# Altium footprint library NLSV2T244MUTAG.PcbLib: 3 footprints
Each footprint in its own frame and in the unit in brackets; x right, y up, seen from the top. Pads: shape width x height; smd on the part's side, far side on the other; paste and mask are expansions set on the pad; w line width, h text height; cw(c..) or ccw(c..) is an arc to the next point about the centre after c.
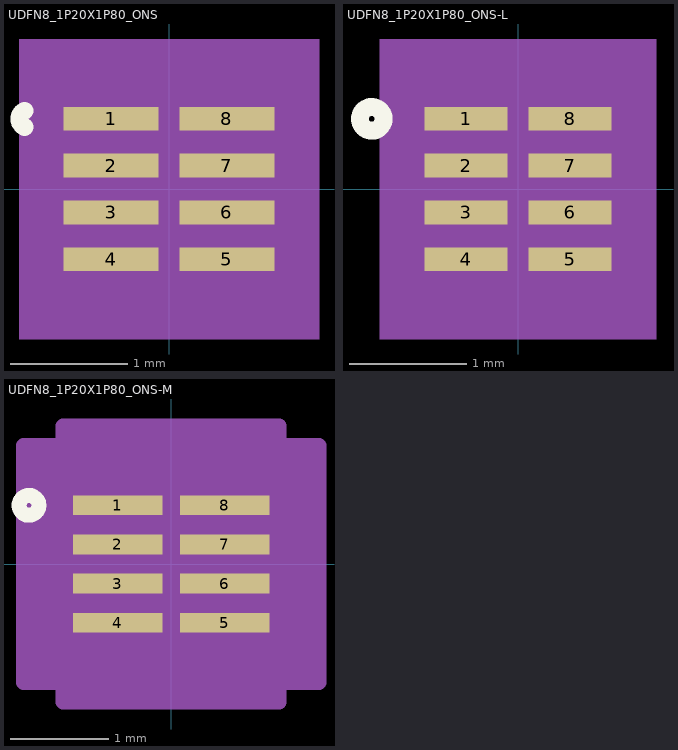
[diagram p0: the footprints below, top view; thin cyan lines are the x and y axes]

## UDFN8_1P20X1P80_ONS [mil]
pads (8):
  rect 32x8 smd paste+0 mask+0: 1(-19.5,23.62) 2(-19.5,7.87) 3(-19.5,-7.87) 4(-19.5,-23.62) 5(19.5,-23.62) 6(19.5,-7.87) 7(19.5,7.87) 8(19.5,23.62)
Top Overlay:
  lines w6: -48.6,20.88 cw(c-47.37,23.62) -48.6,26.36
Mechanical 5:
  region: 50.5,-50.5 -50.5,-50.5 -50.5,50.5 50.5,50.5
Mechanical 13:
  circle w6: c-3.5,23.62 r0
  lines w0: -12,35.5 ccw(c0,35.5) 12,35.5
  lines w1: -23.5,-35.5 23.5,-35.5 23.5,35.5 -23.5,35.5 -23.5,-35.5
Mechanical 15:
  region: -33.5,-37.62 -45.5,-37.62 -45.5,37.62 -33.5,37.62 -33.5,45.5 33.5,45.5 33.5,37.62 45.5,37.62 45.5,-37.62 33.5,-37.62 33.5,-45.5 -33.5,-45.5
  lines w6: -45.5,-37.62 -45.5,37.62 -33.5,37.62 -33.5,45.5 33.5,45.5 33.5,37.62 45.5,37.62 45.5,-37.62 33.5,-37.62 33.5,-45.5 -33.5,-45.5 -33.5,-37.62 -45.5,-37.62
3D body "UDFN8_1P20X1P80_ONS.step": height 22.09, standoff 0, extent -23.5,-35.51 23.5,35.51

## UDFN8_1P20X1P80_ONS-L [mil]
pads (8):
  rect 28x8 smd paste+0 mask+0: 1(-17.5,23.62) 2(-17.5,7.87) 3(-17.5,-7.87) 4(-17.5,-23.62) 5(17.5,-23.62) 6(17.5,-7.87) 7(17.5,7.87) 8(17.5,23.62)
Top Overlay:
  circle w6: c-49.25,23.62 r4
Mechanical 5:
  region: 46.5,-50.5 -46.5,-50.5 -46.5,50.5 46.5,50.5
Mechanical 13:
  circle w0: c-3.5,23.62 r3
  lines w0: -12,35.5 ccw(c0,35.5) 12,35.5
  lines w1: -23.5,-35.5 23.5,-35.5 23.5,35.5 -23.5,35.5 -23.5,-35.5
Mechanical 15:
  region: -27.5,-31.62 -35.5,-31.62 -35.5,31.62 -27.5,31.62 -27.5,39.5 27.5,39.5 27.5,31.62 35.5,31.62 35.5,-31.62 27.5,-31.62 27.5,-39.5 -27.5,-39.5
  lines w6: -35.5,-31.62 -35.5,31.62 -27.5,31.62 -27.5,39.5 27.5,39.5 27.5,31.62 35.5,31.62 35.5,-31.62 27.5,-31.62 27.5,-39.5 -27.5,-39.5 -27.5,-31.62 -35.5,-31.62
3D body "UDFN8_1P20X1P80_ONS.step": height 22.09, standoff 0, extent -23.5,-35.51 23.5,35.51

## UDFN8_1P20X1P80_ONS-M [mil]
pads (8):
  rect 36x8 smd paste+0 mask+0: 1(-21.5,23.62) 2(-21.5,7.87) 3(-21.5,-7.87) 4(-21.5,-23.62) 5(21.5,-23.62) 6(21.5,-7.87) 7(21.5,7.87) 8(21.5,23.62)
Top Overlay:
  circle w6: c-57.25,23.62 r4
Mechanical 5:
  region: 54.5,-50.5 -54.5,-50.5 -54.5,50.5 54.5,50.5
Mechanical 13:
  circle w0: c-3.5,23.62 r3
  lines w0: -12,35.5 ccw(c0,35.5) 12,35.5
  lines w1: -23.5,-35.5 23.5,-35.5 23.5,35.5 -23.5,35.5 -23.5,-35.5
Mechanical 15:
  region: -43.5,-47.62 -59.5,-47.62 -59.5,47.62 -43.5,47.62 -43.5,55.5 43.5,55.5 43.5,47.62 59.5,47.62 59.5,-47.62 43.5,-47.62 43.5,-55.5 -43.5,-55.5
  lines w6: -59.5,-47.62 -59.5,47.62 -43.5,47.62 -43.5,55.5 43.5,55.5 43.5,47.62 59.5,47.62 59.5,-47.62 43.5,-47.62 43.5,-55.5 -43.5,-55.5 -43.5,-47.62 -59.5,-47.62
3D body "UDFN8_1P20X1P80_ONS.step": height 22.09, standoff 0, extent -23.5,-35.51 23.5,35.51